# EAGLE library part DSPIC33EV256GM102 (library dspic33ev256gm102)
dsPIC33EV256GM102 DSC
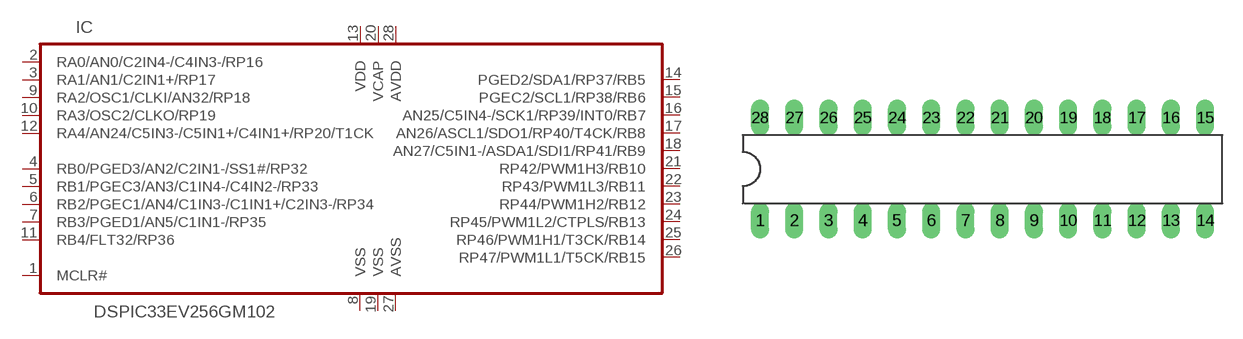
[diagram p0: symbol with the pads of DIL28-3; footprint DIL28-3]

Designator prefix IC

## DSPIC33EV256GM102/SP  [DIL28-3]
1  MCLR#  in
2  RA0/AN0/C2IN4-/C4IN3-/RP16
3  RA1/AN1/C2IN1+/RP17
4  RB0/PGED3/AN2/C2IN1-/SS1#/RP32
5  RB1/PGEC3/AN3/C1IN4-/C4IN2-/RP33
6  RB2/PGEC1/AN4/C1IN3-/C1IN1+/C2IN3-/RP34
7  RB3/PGED1/AN5/C1IN1-/RP35
8  VSS  pwr
9  RA2/OSC1/CLKI/AN32/RP18
10  RA3/OSC2/CLKO/RP19
11  RB4/FLT32/RP36
12  RA4/AN24/C5IN3-/C5IN1+/C4IN1+/RP20/T1CK
13  VDD  pwr
14  PGED2/SDA1/RP37/RB5
15  PGEC2/SCL1/RP38/RB6
16  AN25/C5IN4-/SCK1/RP39/INT0/RB7
17  AN26/ASCL1/SDO1/RP40/T4CK/RB8
18  AN27/C5IN1-/ASDA1/SDI1/RP41/RB9
19  VSS  pwr
20  VCAP  in
21  RP42/PWM1H3/RB10
22  RP43/PWM1L3/RB11
23  RP44/PWM1H2/RB12
24  RP45/PWM1L2/CTPLS/RB13
25  RP46/PWM1H1/T3CK/RB14
26  RP47/PWM1L1/T5CK/RB15
27  AVSS  pwr
28  AVDD  pwr

## Footprint DIL28-3 (pad centres in mm)
Dual In Line package type P
drill 0.813 long: 1 -16.51,-3.81; 2 -13.97,-3.81; 3 -11.43,-3.81; 4 -8.89,-3.81; 5 -6.35,-3.81; 6 -3.81,-3.81; 7 -1.27,-3.81; 8 1.27,-3.81; 9 3.81,-3.81; 10 6.35,-3.81; 11 8.89,-3.81; 12 11.43,-3.81; 13 13.97,-3.81; 14 16.51,-3.81; 15 16.51,3.81; 16 13.97,3.81; 17 11.43,3.81; 18 8.89,3.81; 19 6.35,3.81; 20 3.81,3.81; 21 1.27,3.81; 22 -1.27,3.81; 23 -3.81,3.81; 24 -6.35,3.81; 25 -8.89,3.81; 26 -11.43,3.81; 27 -13.97,3.81; 28 -16.51,3.81